# EAGLE library part PT6313-S (library bodger)
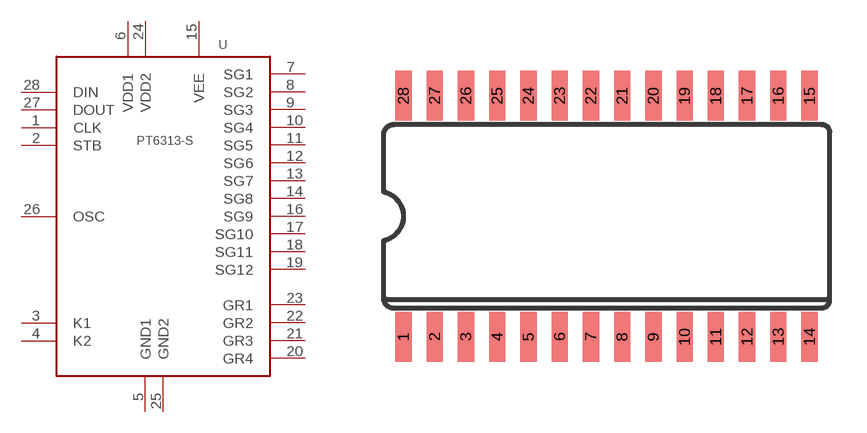
[diagram p0: symbol with the pads of SOP28; footprint SOP28]

Designator prefix -

## PT6313-S  [SOP28]
1  CLK
2  STB
3  K1
4  K2
5  GND1
6  VDD1
7  SG1
8  SG2
9  SG3
10  SG4
11  SG5
12  SG6
13  SG7
14  SG8
15  VEE
16  SG9
17  SG10
18  SG11
19  SG12
20  GR4
21  GR3
22  GR2
23  GR1
24  VDD2
25  GND2
26  OSC
27  DOUT
28  DIN

## Footprint SOP28 (pad centres in mm)
smd 0.66 x 2.032: 1 -6.985,-4.902; 2 -5.715,-4.902; 3 -4.445,-4.902; 4 -3.175,-4.902; 5 -1.905,-4.902; 6 -0.635,-4.902; 7 0.635,-4.902; 8 1.905,-4.902; 9 3.175,-4.902; 10 4.445,-4.902; 11 5.715,-4.902; 12 6.985,-4.902; 13 8.255,-4.902; 14 9.525,-4.902; 15 9.525,4.902; 16 8.255,4.902; 17 6.985,4.902; 18 5.715,4.902; 19 4.445,4.902; 20 3.175,4.902; 21 1.905,4.902; 22 0.635,4.902; 23 -0.635,4.902; 24 -1.905,4.902; 25 -3.175,4.902; 26 -4.445,4.902; 27 -5.715,4.902; 28 -6.985,4.902